# Altium footprint library Conn_Male.PcbLib: 2 footprints
Each footprint in its own frame and in the unit in brackets; x right, y up, seen from the top. Pads: shape width x height; smd on the part's side, far side on the other; paste and mask are expansions set on the pad; w line width, h text height; cw(c..) or ccw(c..) is an arc to the next point about the centre after c.
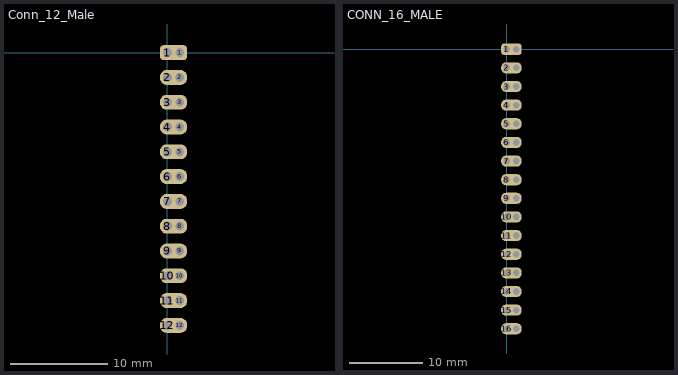
[diagram p0: the footprints below, top view; thin cyan lines are the x and y axes]

## Conn_12_Male [mil]
pads (24):
  rrect50% 110x60 hole 36 copper offset 25,0: 1(0,0)
  rrect100% 36x36 hole 36: 1(50,0) 2(50,-100) 3(50,-200) 4(50,-300) 5(50,-400) 6(50,-500) 7(50,-600) 8(50,-700) 9(50,-800) 10(50,-900) 11(50,-1000) 12(50,-1100)
  rrect90% 110x60 hole 36 copper offset 25,0: 2(0,-100) 3(0,-200) 4(0,-300) 5(0,-400) 6(0,-500) 7(0,-600) 8(0,-700) 9(0,-800) 10(0,-900) 11(0,-1000) 12(0,-1100)

## CONN_16_MALE [mil]
pads (32):
  rrect50% 110x60 hole 36 copper offset 25,0: 1(0,0)
  rrect100% 36x36 hole 36: 1(50,0) 2(50,-100) 3(50,-200) 4(50,-300) 5(50,-400) 6(50,-500) 7(50,-600) 8(50,-700) 9(50,-800) 10(50,-900) 11(50,-1000) 12(50,-1100) 13(50,-1200) 14(50,-1300) 15(50,-1400) 16(50,-1500)
  rrect90% 110x60 hole 36 copper offset 25,0: 2(0,-100) 3(0,-200) 4(0,-300) 5(0,-400) 6(0,-500) 7(0,-600) 8(0,-700) 9(0,-800) 10(0,-900) 11(0,-1000) 12(0,-1100) 13(0,-1200) 14(0,-1300) 15(0,-1400) 16(0,-1500)